# Altium footprint library ICSP-PinHeader.PcbLib: 2 footprints
Each footprint in its own frame and in the unit in brackets; x right, y up, seen from the top. Pads: shape width x height; smd on the part's side, far side on the other; paste and mask are expansions set on the pad; w line width, h text height; cw(c..) or ccw(c..) is an arc to the next point about the centre after c.
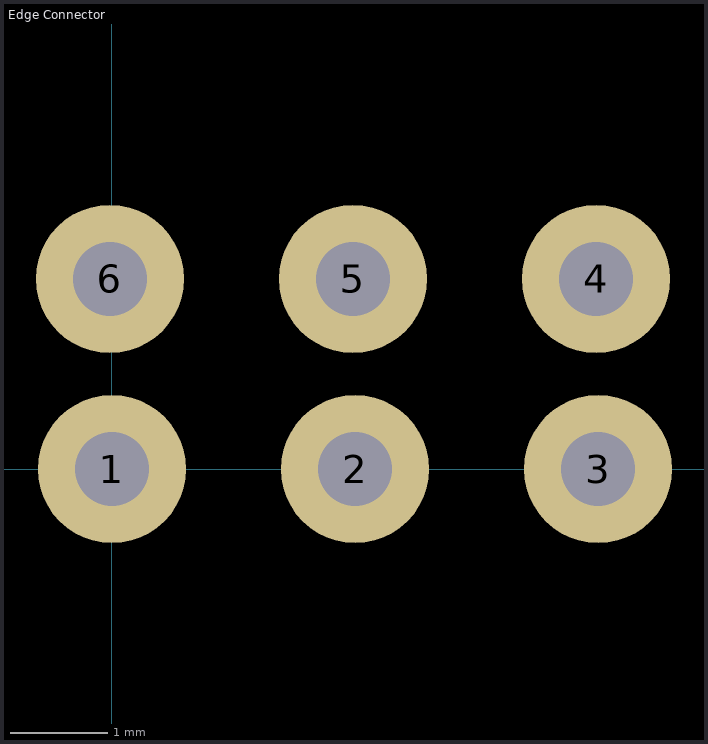
[diagram p0: the footprints below, top view; thin cyan lines are the x and y axes]

## Edge Connector [mil]
pads (6):
  round 60 hole 30: 1(0,0) 2(98.43,0) 3(196.85,0) 4(196,77) 5(97.57,77) 6(-0.85,77)
3D body "MTMM-102-02-T-S-126.stp": height 185, standoff -70, extent 155,-42.74 233.7,114.74
3D body "MTMM-102-02-T-S-126.stp": height 185, standoff -70, extent 55.65,-41.74 134.35,115.74
3D body "MTMM-102-02-T-S-126.stp": height 185, standoff -70, extent -39.35,-41.74 39.35,115.74

## PCBComponent_1 [mil]